# Altium footprint library LTST-C191KGKT.PcbLib: 2 footprints
Each footprint in its own frame and in the unit in brackets; x right, y up, seen from the top. Pads: shape width x height; smd on the part's side, far side on the other; paste and mask are expansions set on the pad; w line width, h text height; cw(c..) or ccw(c..) is an arc to the next point about the centre after c.
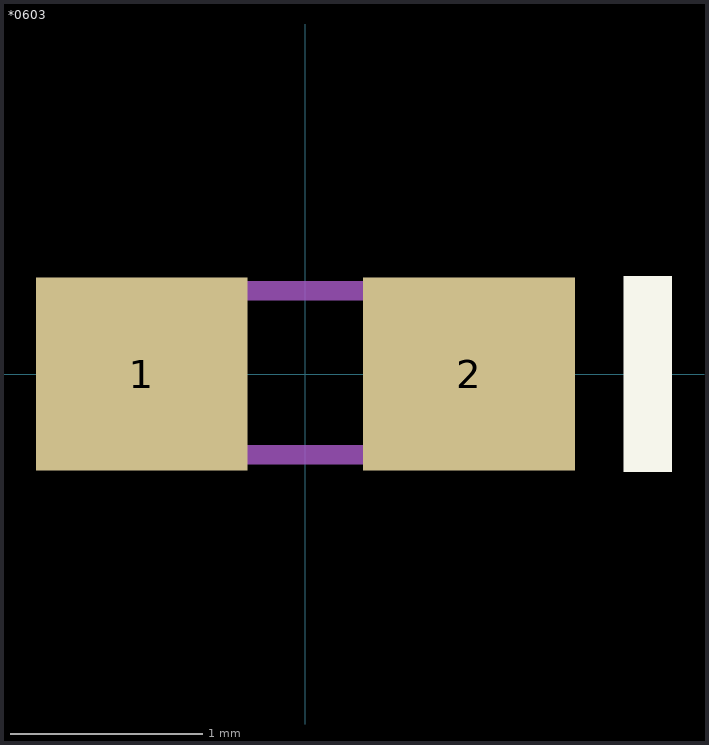
[diagram p0: the footprints below, top view; thin cyan lines are the x and y axes]

## *0603 [mm]
pads (2):
  rect 1.1x1 smd: 1(-0.85,0) 2(0.85,0)
Top Overlay:
  rectangle: 1.651,-0.508 1.905,0.508
Mechanical 4:
  region: 0.331,0.48 0.83,0.48 0.83,-0.471 0.331,-0.471
  region: -0.84,0.48 -0.338,0.48 -0.338,-0.471 -0.84,-0.471
  region: 0.331,0.48 0.83,0.48 0.83,-0.471 0.331,-0.471
  region: -0.84,0.48 -0.338,0.48 -0.338,-0.471 -0.84,-0.471
  lines w0.102: -0.356,-0.419 0.356,-0.419 -0.356,-0.419 ; -0.356,0.432 0.356,0.432 -0.356,0.432
3D body "LTST-C190KRKT--3DModel-STEP-56544.STEP": height 0.81, standoff 0.01, extent -0.8,-0.4 0.8,0.4

## PCBComponent_1 [mm]